# EAGLE library part STACKDUINO_DIGOLE_OLED (library Stackduino-SMD)
128x64 Digole OLED
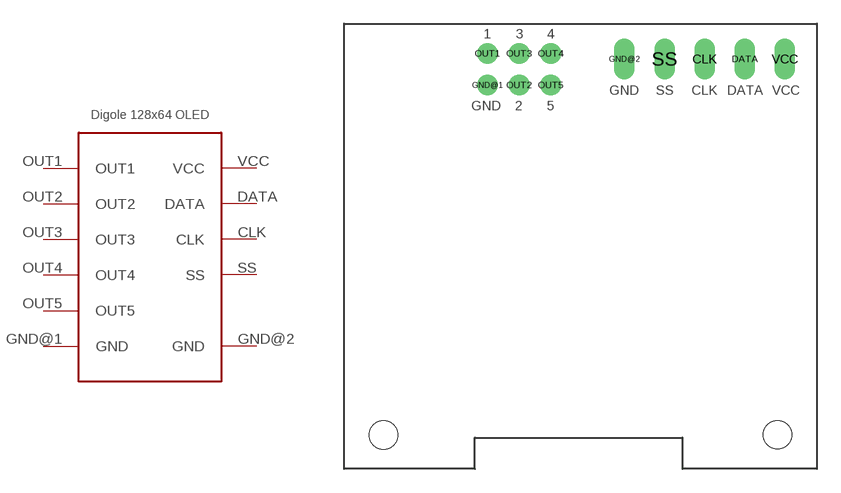
[diagram p5: symbol with the pads of STACKDUINO_DIGOLE_OLED; footprint STACKDUINO_DIGOLE_OLED]

Designator prefix -

## STACKDUINO_DIGOLE_OLED  [STACKDUINO_DIGOLE_OLED]
CLK  CLK
DATA  DATA
GND@1  GND
GND@2  GND
OUT1  OUT1
OUT2  OUT2
OUT3  OUT3
OUT4  OUT4
OUT5  OUT5
SS  SS
VCC  VCC

## Footprint STACKDUINO_DIGOLE_OLED (pad centres in mm)
drill 0.8 long: CLK 7.441,11.916; DATA 9.981,11.916; GND@2 2.361,11.916; SS 4.901,11.916; VCC 12.521,11.916
drill 0.8: GND@1 -6.306,10.265; OUT1 -6.306,12.265; OUT2 -4.306,10.265; OUT3 -4.306,12.265; OUT4 -2.306,12.265; OUT5 -2.306,10.265
hole 1.8 at 12.054,-11.875
hole 1.8 at -12.897,-11.883